# Altium integrated library 10ZLH1000MEFC10X12P5.IntLib: 1 symbol
Pins are listed as number, name and electrical type; pins without a type are passive.

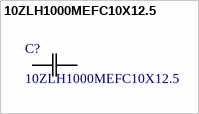
[diagram p0: symbol 10ZLH1000MEFC10X12.5]

## 10ZLH1000MEFC10X12.5
designator C?
Description; Manufacturer_Name: Rubycon; Copyright: Copyright (C) 2026 Ultra Librarian. All rights reserved.; Manufacturer_Part_Number: 10ZLH1000MEFC10X12.5
footprint CAP_10X12.5_RUB
pins: 1, 2